# Altium footprint library IC.USSA.PcbLib: 1 footprints
Each footprint in its own frame and in the unit in brackets; x right, y up, seen from the top. Pads: shape width x height; smd on the part's side, far side on the other; paste and mask are expansions set on the pad; w line width, h text height; cw(c..) or ccw(c..) is an arc to the next point about the centre after c.
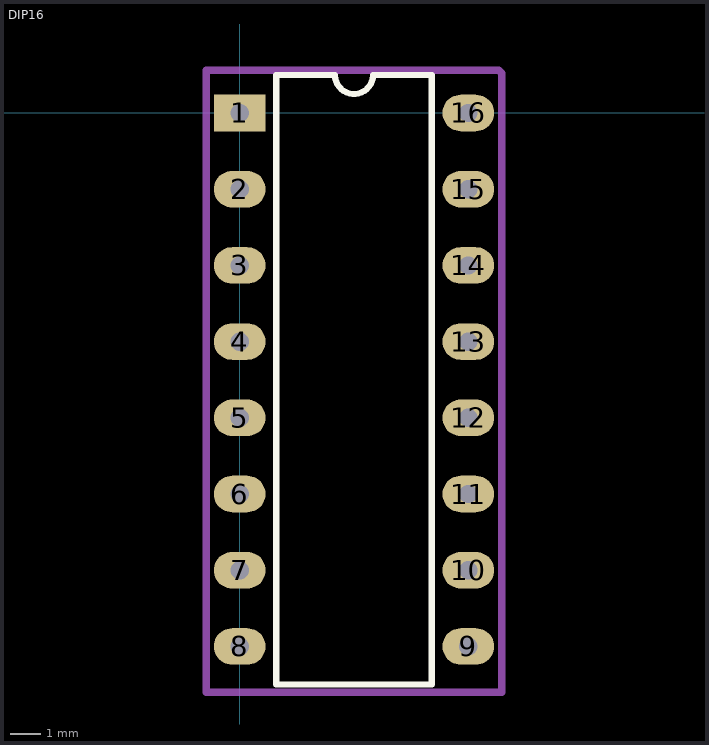
[diagram p0: the footprint, top view; thin cyan lines are the x and y axes]

## DIP16 [mm]
pads (16):
  rect 1.7x1.2 hole 0.6: 1(0,0)
  oval 1.7x1.2 hole 0.6: 2(0,-2.5) 3(0,-5) 4(0,-7.5) 5(0,-10) 6(0,-12.5) 7(0,-15) 8(0,-17.5) 9(7.5,-17.5) 10(7.5,-15) 11(7.5,-12.5) 12(7.5,-10) 13(7.5,-7.5) 14(7.5,-5) 15(7.5,-2.5) 16(7.5,0)
Top Overlay:
  lines w0.2: 1.2,-18.75 1.2,1.25 3.125,1.25 ccw(c3.75,1.25) 4.375,1.25 6.3,1.25 6.3,-18.75 1.2,-18.75
Border:
  lines w0.254: -1.1,-19 -1.1,1.4 8.5,1.4 8.6,1.3 8.6,-19 -1.1,-19
3D body "User Library-DIP-16P-M03.STEP": height 4.66, standoff -3, extent -0.135,-18.4 7.735,1